# EAGLE library part FTSH-108-02-LM-D-ES (library 16pos1.27mm)
Check availability <https://pricing.snapeda.com/parts/FTSH-108-02-LM-D-ES/Samtec/view-part?ref=eda>
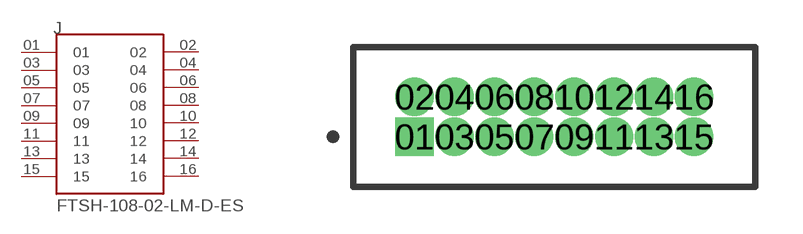
[diagram p0: symbol with the pads of SAMTEC_FTSH-108-02-LM-D-ES; footprint SAMTEC_FTSH-108-02-LM-D-ES]

Designator prefix J

## FTSH-108-02-LM-D-ES (Availability: In Stock; Description: Connector Header Through Hole 16 position 0.050 (1.27mm); MF: Samtec; MP: FTSH-108-02-LM-D-ES; Package: None; Price: None; Purchase-URL: https://pricing.snapeda.com/search?q=FTSH-108-02-LM-D-ES&ref=eda)  [SAMTEC_FTSH-108-02-LM-D-ES]
01  01  pas
02  02  pas
03  03  pas
04  04  pas
05  05  pas
06  06  pas
07  07  pas
08  08  pas
09  09  pas
10  10  pas
11  11  pas
12  12  pas
13  13  pas
14  14  pas
15  15  pas
16  16  pas

## Footprint SAMTEC_FTSH-108-02-LM-D-ES (pad centres in mm)
drill 0.71 pad 1.06 square: 01 0,0
drill 0.71 pad 1.06: 02 0,1.27; 03 1.27,0; 04 1.27,1.27; 05 2.54,0; 06 2.54,1.27; 07 3.81,0; 08 3.81,1.27; 09 5.08,0; 10 5.08,1.27; 11 6.35,0; 12 6.35,1.27; 13 7.62,0; 14 7.62,1.27; 15 8.89,0; 16 8.89,1.27